# EAGLE library part ARDUINOR3SHORTNOTEXT (library Qtechknow)
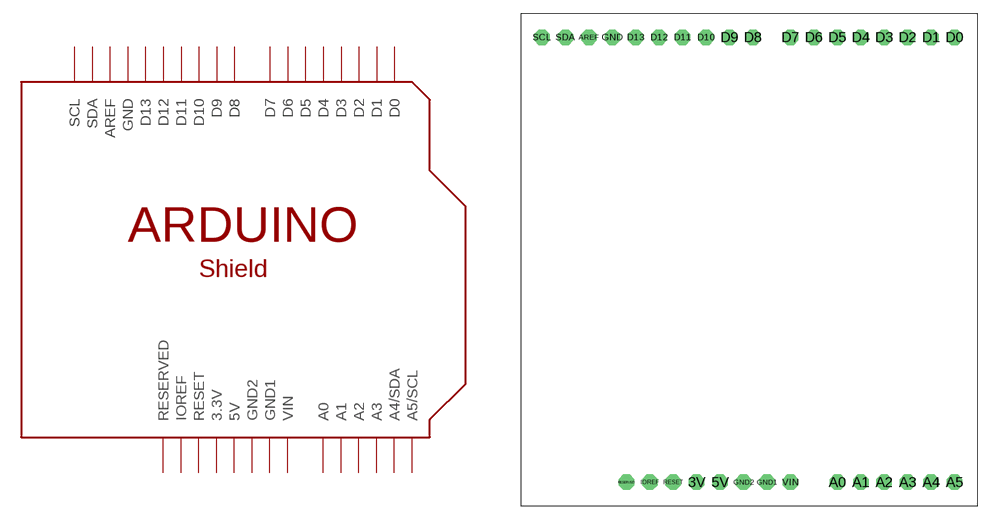
[diagram p5: symbol with the pads of ARDUINOR3SHORTNOHOLENOTEXT; footprint ARDUINOR3SHORTNOHOLENOTEXT]

Designator prefix -

## ARDUINOR3SHORTNOTEXT  [ARDUINOR3SHORTNOHOLENOTEXT]
3V  3.3V  pwr
5V  5V  pwr
A0  A0
A1  A1
A2  A2
A3  A3
A4  A4/SDA
A5  A5/SCL
AREF  AREF
D0  D0
D1  D1
D2  D2
D3  D3
D4  D4
D5  D5
D6  D6
D7  D7
D8  D8
D9  D9
D10  D10
D11  D11
D12  D12
D13  D13
GND  GND  pwr
GND1  GND1  pwr
GND2  GND2  pwr
IOREF  IOREF  out
RESERVED  RESERVED  nc
RESET  RESET
SCL  SCL
SDA  SDA
VIN  VIN  pwr

## Footprint ARDUINOR3SHORTNOHOLENOTEXT (pad centres in mm)
drill 1 pad 1.676 octagon: 3V -6.35,-21.59; 5V -3.81,-21.59; A0 8.89,-21.59; A1 11.43,-21.59; A2 13.97,-21.59; A3 16.51,-21.59; A4 19.05,-21.59; A5 21.59,-21.59; AREF -18.034,26.67; D0 21.59,26.67; D1 19.05,26.67; D2 16.51,26.67; D3 13.97,26.67; D4 11.43,26.67; D5 8.89,26.67; D6 6.35,26.67; D7 3.81,26.67; D8 -0.254,26.67; D9 -2.794,26.67; D10 -5.334,26.67; D11 -7.874,26.67; D12 -10.414,26.67; D13 -12.954,26.67; GND -15.494,26.67; GND1 1.27,-21.59; GND2 -1.27,-21.59; IOREF -11.43,-21.59; RESERVED -13.97,-21.59; RESET -8.89,-21.59; SCL -23.114,26.67; SDA -20.574,26.67; VIN 3.81,-21.59